# EAGLE library part MAX98357A (library Tristan+Robitaille_s+Library)
Maxim MAX98357A PCM Input Class D Audio Power Amplifiers Technical specifications: Max power output: 3.2W Min./max. gain: 3dB/15dB Voltage input range: 2.5V to 5.5V Quiescent current draw: 2.4mA Min./max. sample rates: 8kHz/96kHz Efficiency: 92% I2S data input Datasheet <http://datasheets.maximintegrated.com/en/ds/MAX98357A-MAX98357B.pdf> Digi-Key part #: MAX98357AETE+-ND <http://www.digikey.ca/product-detail/en/maxim-integrated/MAX98357AETE-/MAX98357AETE--ND/5979952> Mouser part #: 700-MAX98357AETE+T <http://www.mouser.com/ProductDetail/Maxim-Integrated/MAX98357AETE+T/?qs=sGAEpiMZZMtjWZqwEMjY%2fzX1ctmB%2f79x1%2fBWx4DTlco%3d> Manufacturer part #: MAX98357AETE+T
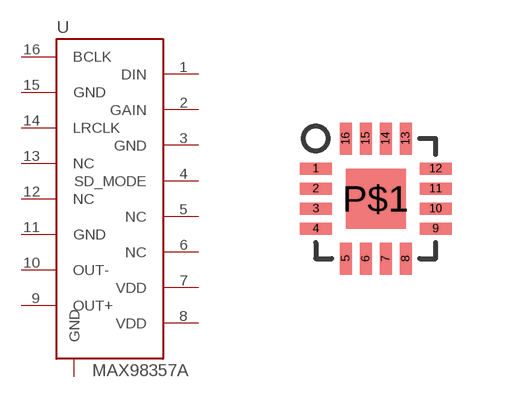
[diagram p8: symbol with the pads of QFN16_3X3; footprint QFN16_3X3]

Designator prefix U

## MAX98357A (DIGIKEY#: MAX98357AETE+-ND; MANF: MAX98357 PCM Input Class D Audio Power Amplifier; MANF#: MAX98357AETE+T; MOUSER#: 700-MAX98357AETE+T)  [QFN16_3X3]
1  DIN  in
2  GAIN  in
3  GND  pwr
4  SD_MODE  in
5  NC  nc
6  NC  nc
7  VDD  pwr
8  VDD  pwr
9  OUT+  out
10  OUT-  out
11  GND  pwr
12  NC  nc
13  NC  nc
14  LRCLK  in
15  GND  pwr
16  BCLK  in
P$1  GND  pwr

## Footprint QFN16_3X3 (pad centres in mm)
smd 0.8 x 0.3: 1 -1.5,0.75; 2 -1.5,0.25; 3 -1.5,-0.25; 4 -1.5,-0.75; 9 1.5,-0.75; 10 1.5,-0.25; 11 1.5,0.25; 12 1.5,0.75
smd 0.3 x 0.8: 5 -0.75,-1.5; 6 -0.25,-1.5; 7 0.25,-1.5; 8 0.75,-1.5; 13 0.75,1.5; 14 0.25,1.5; 15 -0.25,1.5; 16 -0.75,1.5
smd 1.5 x 1.5: P$1 0,0